# EAGLE library part ATMEGA*-ARDUINO-DIP (library atmel)
8bit Microcontroller Source: http://www.atmel.com/images/Atmel-8271-8-bit-AVR-Microcontroller-ATmega48A-48PA-88A-88PA-168A-168PA-328-328P_datasheet_Complete.pdf 8/16/32K Bytes Flash 512/512/1K Bytes EEPROM 1K/1K/2K Byte Internal SRAM
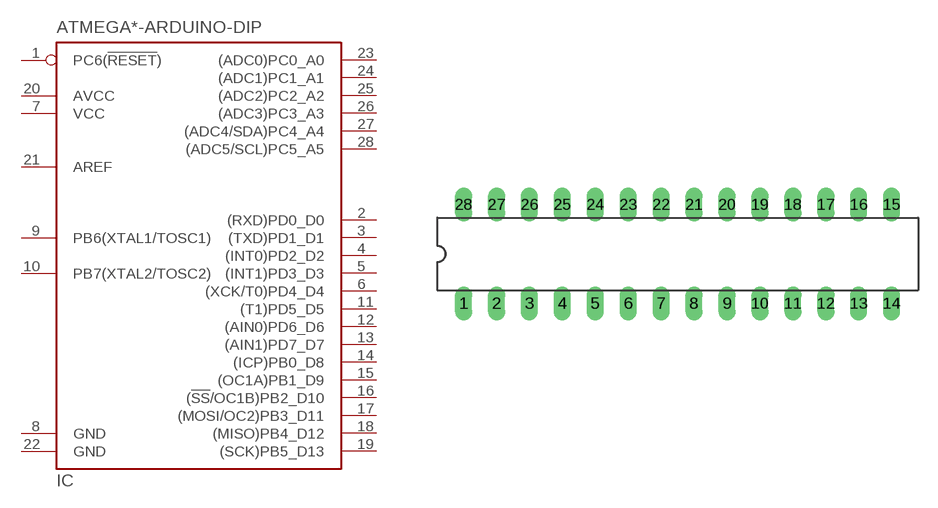
[diagram p5: symbol with the pads of DIL28-SLIM; footprint DIL28-SLIM]

Designator prefix IC

## ATMEGA168A-ARDUINO-DIP, ATMEGA168PA-ARDUINO-DIP, ATMEGA328-ARDUINO-DIP, ATMEGA328P-ARDUINO-DIP, ATMEGA48A-ARDUINO-DIP, ATMEGA88A-ARDUINO-DIP, ATMEGA88PA-ARDUINO-DIP  [DIL28-SLIM]
1  PC6(!RESET!)
2  (RXD)PD0_D0
3  (TXD)PD1_D1
4  (INT0)PD2_D2
5  (INT1)PD3_D3
6  (XCK/T0)PD4_D4
7  VCC  pwr
8  GND  pwr
9  PB6(XTAL1/TOSC1)
10  PB7(XTAL2/TOSC2)
11  (T1)PD5_D5
12  (AIN0)PD6_D6
13  (AIN1)PD7_D7
14  (ICP)PB0_D8
15  (OC1A)PB1_D9
16  (!SS!/OC1B)PB2_D10
17  (MOSI/OC2)PB3_D11
18  (MISO)PB4_D12
19  (SCK)PB5_D13
20  AVCC  pwr
21  AREF  pas
22  GND  pwr
23  (ADC0)PC0_A0
24  (ADC1)PC1_A1
25  (ADC2)PC2_A2
26  (ADC3)PC3_A3
27  (ADC4/SDA)PC4_A4
28  (ADC5/SCL)PC5_A5

## Footprint DIL28-SLIM (pad centres in mm)
Dual In Line 0.3 inch
drill 0.813 long: 1 -16.51,-3.81; 2 -13.97,-3.81; 3 -11.43,-3.81; 4 -8.89,-3.81; 5 -6.35,-3.81; 6 -3.81,-3.81; 7 -1.27,-3.81; 8 1.27,-3.81; 9 3.81,-3.81; 10 6.35,-3.81; 11 8.89,-3.81; 12 11.43,-3.81; 13 13.97,-3.81; 14 16.51,-3.81; 15 16.51,3.81; 16 13.97,3.81; 17 11.43,3.81; 18 8.89,3.81; 19 6.35,3.81; 20 3.81,3.81; 21 1.27,3.81; 22 -1.27,3.81; 23 -3.81,3.81; 24 -6.35,3.81; 25 -8.89,3.81; 26 -11.43,3.81; 27 -13.97,3.81; 28 -16.51,3.81